# EAGLE library part ISP1520 (library jason-test)
4-port USB hub
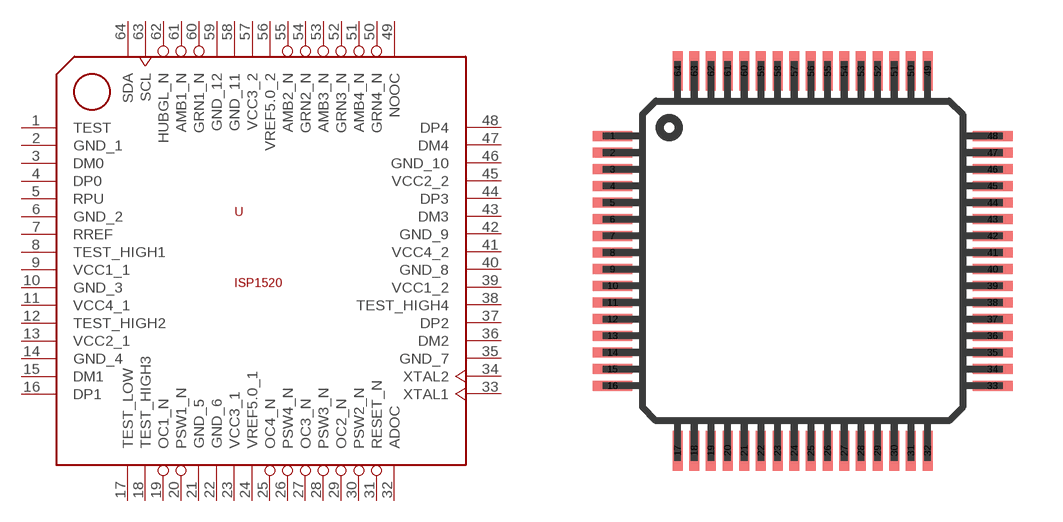
[diagram p28: symbol with the pads of TQFP64-10X10; footprint TQFP64-10X10]

Designator prefix -

## ISP1520  [TQFP64-10X10]
1  TEST
2  GND_1  pwr
3  DM0
4  DP0
5  RPU  in
6  GND_2  pwr
7  RREF  in
8  TEST_HIGH1
9  VCC1_1  pwr
10  GND_3  pwr
11  VCC4_1  pwr
12  TEST_HIGH2
13  VCC2_1  pwr
14  GND_4  pwr
15  DM1
16  DP1
17  TEST_LOW
18  TEST_HIGH3
19  OC1_N
20  PSW1_N
21  GND_5  pwr
22  GND_6  pwr
23  VCC3_1  pwr
24  VREF5.0_1  pwr
25  OC4_N
26  PSW4_N
27  OC3_N
28  PSW3_N
29  OC2_N
30  PSW2_N
31  RESET_N  in
32  ADOC  in
33  XTAL1  in
34  XTAL2
35  GND_7  pwr
36  DM2
37  DP2
38  TEST_HIGH4
39  VCC1_2  pwr
40  GND_8  pwr
41  VCC4_2  pwr
42  GND_9  pwr
43  DM3
44  DP3
45  VCC2_2  pwr
46  GND_10  pwr
47  DM4
48  DP4
49  NOOC  in
50  GRN4_N
51  AMB4_N
52  GRN3_N
53  AMB3_N
54  GRN2_N
55  AMB2_N
56  VREF5.0_2  pwr
57  VCC3_2  pwr
58  GND_11  pwr
59  GND_12  pwr
60  GRN1_N
61  AMB1_N
62  HUBGL_N  out
63  SCL
64  SDA

## Footprint TQFP64-10X10 (pad centres in mm)
Thin Quad Flat Pack package type TQ
smd 1.2 x 0.3: 1 -5.7,3.75; 2 -5.7,3.25; 3 -5.7,2.75; 4 -5.7,2.25; 5 -5.7,1.75; 6 -5.7,1.25; 7 -5.7,0.75; 8 -5.7,0.25; 9 -5.7,-0.25; 10 -5.7,-0.75; 11 -5.7,-1.25; 12 -5.7,-1.75; 13 -5.7,-2.25; 14 -5.7,-2.75; 15 -5.7,-3.25; 16 -5.7,-3.75; 33 5.7,-3.75; 34 5.7,-3.25; 35 5.7,-2.75; 36 5.7,-2.25; 37 5.7,-1.75; 38 5.7,-1.25; 39 5.7,-0.75; 40 5.7,-0.25; 41 5.7,0.25; 42 5.7,0.75; 43 5.7,1.25; 44 5.7,1.75; 45 5.7,2.25; 46 5.7,2.75; 47 5.7,3.25; 48 5.7,3.75
smd 0.3 x 1.2: 17 -3.75,-5.7; 18 -3.25,-5.7; 19 -2.75,-5.7; 20 -2.25,-5.7; 21 -1.75,-5.7; 22 -1.25,-5.7; 23 -0.75,-5.7; 24 -0.25,-5.7; 25 0.25,-5.7; 26 0.75,-5.7; 27 1.25,-5.7; 28 1.75,-5.7; 29 2.25,-5.7; 30 2.75,-5.7; 31 3.25,-5.7; 32 3.75,-5.7; 49 3.75,5.7; 50 3.25,5.7; 51 2.75,5.7; 52 2.25,5.7; 53 1.75,5.7; 54 1.25,5.7; 55 0.75,5.7; 56 0.25,5.7; 57 -0.25,5.7; 58 -0.75,5.7; 59 -1.25,5.7; 60 -1.75,5.7; 61 -2.25,5.7; 62 -2.75,5.7; 63 -3.25,5.7; 64 -3.75,5.7